# Altium footprint library R2Cloud.PcbLib: 10 footprints
Each footprint in its own frame and in the unit in brackets; x right, y up, seen from the top. Pads: shape width x height; smd on the part's side, far side on the other; paste and mask are expansions set on the pad; w line width, h text height; cw(c..) or ccw(c..) is an arc to the next point about the centre after c.
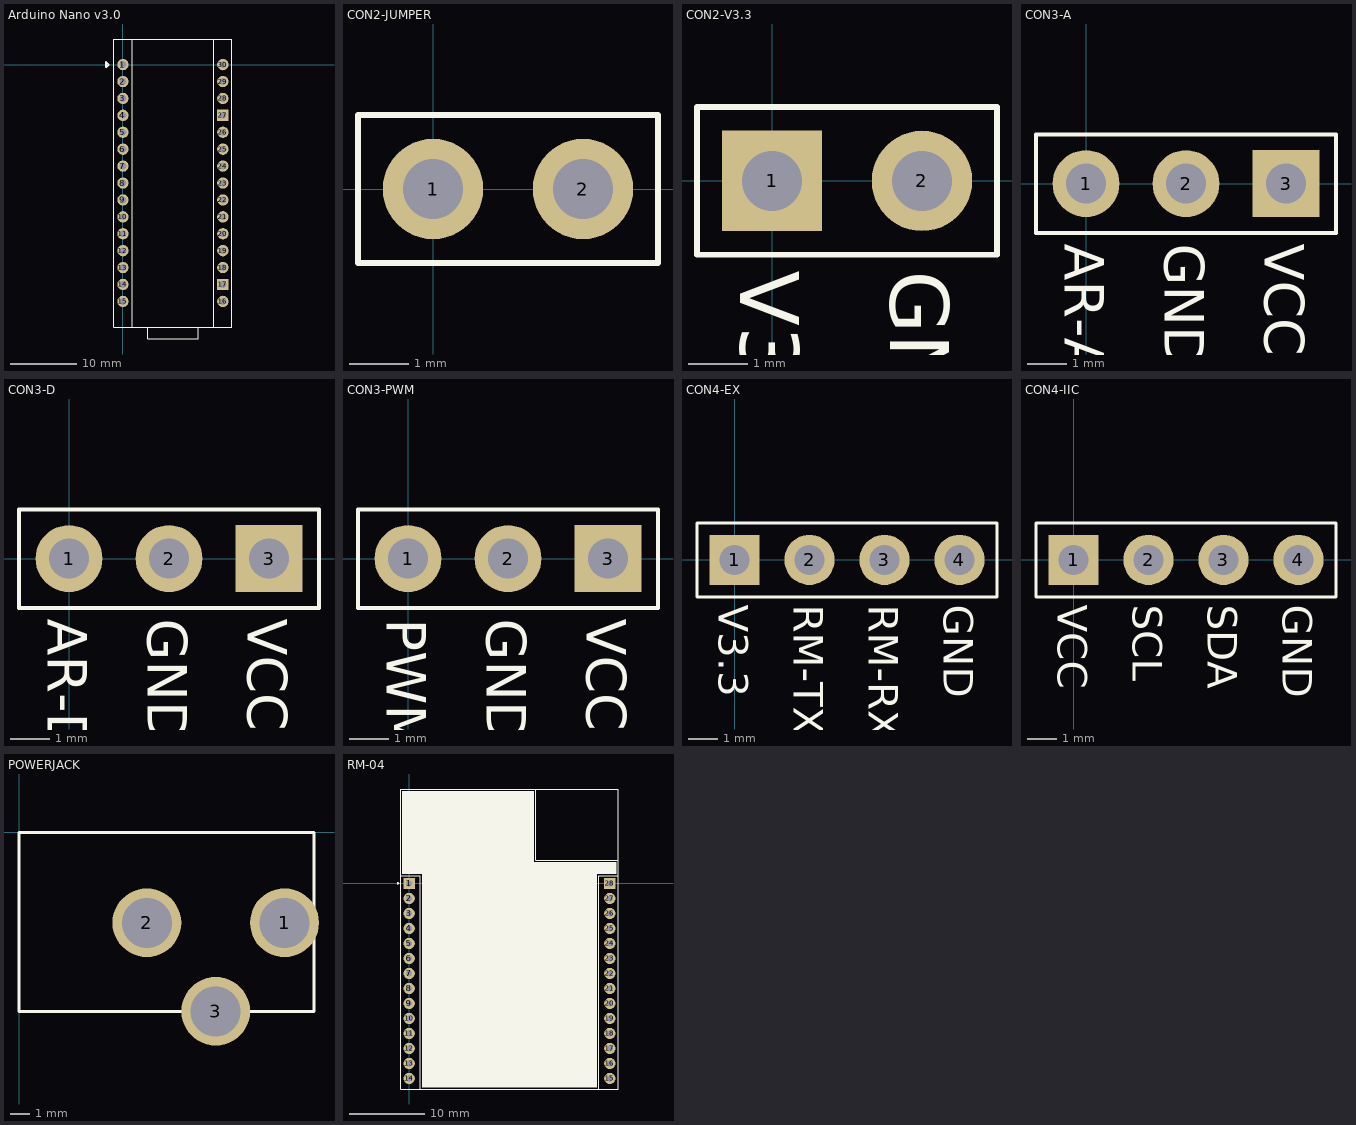
[diagram p0: the footprints below, top view; thin cyan lines are the x and y axes]

## Arduino Nano v3.0 [mm]
pads (30):
  round 1.7 hole 1.02: 1(0,0) 2(0,-2.54) 3(0,-5.08) 4(0,-7.62) 5(0,-10.16) 6(0,-12.7) 7(0,-15.24) 8(0,-17.78) 9(0,-20.32) 10(0,-22.86) 11(0,-25.4) 12(0,-27.94) 13(0,-30.48) 14(0,-33.02) 15(0,-35.56) 16(15,-35.56) 18(15,-30.48) 19(15,-27.94) 20(15,-25.4) 21(15,-22.86) 22(15,-20.32) 23(15,-17.78) 24(15,-15.24) 25(15,-12.7) 26(15,-10.16) 28(15,-5.08) 29(15,-2.54) 30(15,0)
  rect 1.7x1.7 hole 1.02: 17(15,-33.02) 27(15,-7.62)
Top Overlay:
  lines w0.1: 1.365,-39.405 1.365,3.845 ; 3.7,-39.405 3.7,-41.205 11.3,-41.205 11.3,-39.405 ; 13.635,-39.405 13.635,3.845 ; -1.365,-39.405 -1.365,3.845 6.865,3.845 16.365,3.845 16.365,-39.405 -1.365,-39.405
  lines w0.3: -2.54,-0.381 -2.54,0.381 -2.159,0 -2.54,-0.381

## CON2-JUMPER [mm]
pads (2):
  round 1.7 hole 1.02: 1(0,0) 2(2.54,0)
Top Overlay:
  lines w0.1: -1.27,-1.25 3.81,-1.25 3.81,1.25 -1.27,1.25 -1.27,-1.25

## CON2-V3.3 [mm]
pads (2):
  rect 1.7x1.7 hole 1.02: 1(0,0)
  round 1.7 hole 1.02: 2(2.54,0)
Top Overlay:
  lines w0.1: -1.27,-1.25 -1.27,1.25 3.81,1.25 3.81,-1.25 -1.27,-1.25
  text "GND" at 2,-1.524 h1
  text "V3.3" at -0.54,-1.524 h1

## CON3-A [mm]
pads (3):
  round 1.7 hole 1.02: 1(0,0) 2(2.54,0)
  rect 1.7x1.7 hole 1.02: 3(5.08,0)
Top Overlay:
  lines w0.1: -1.27,-1.25 -1.27,1.25 6.35,1.25 6.35,-1.25 -1.27,-1.25
  text "VCC" at 4.54,-1.524 h1
  text "GND" at 2,-1.524 h1
  text "AR-A" at -0.54,-1.524 h1

## CON3-D [mm]
pads (3):
  round 1.7 hole 1.02: 1(0,0) 2(2.54,0)
  rect 1.7x1.7 hole 1.02: 3(5.08,0)
Top Overlay:
  lines w0.1: -1.27,-1.25 6.35,-1.25 6.35,1.25 -1.27,1.25 -1.27,-1.25
  text "AR-D" at -0.54,-1.524 h1
  text "GND" at 2,-1.524 h1
  text "VCC" at 4.54,-1.524 h1

## CON3-PWM [mm]
pads (3):
  round 1.7 hole 1.02: 1(0,0) 2(2.54,0)
  rect 1.7x1.7 hole 1.02: 3(5.08,0)
Top Overlay:
  lines w0.1: -1.27,-1.25 6.35,-1.25 6.35,1.25 -1.27,1.25 -1.27,-1.25
  text "PWM" at -0.54,-1.524 h1
  text "GND" at 2,-1.524 h1
  text "VCC" at 4.54,-1.524 h1

## CON4-EX [mm]
pads (4):
  rect 1.7x1.7 hole 1.02: 1(0,0)
  round 1.7 hole 1.02: 2(2.54,0) 3(5.08,0) 4(7.62,0)
Top Overlay:
  lines w0.1: -1.27,-1.25 -1.27,1.25 8.89,1.25 8.89,-1.25 -1.27,-1.25
  text "RM-RX" at 4.54,-1.524 h1
  text "RM-TX" at 2,-1.524 h1
  text "GND" at 7.08,-1.524 h1
  text "V3.3" at -0.54,-1.524 h1

## CON4-IIC [mm]
pads (4):
  rect 1.7x1.7 hole 1.02: 1(0,0)
  round 1.7 hole 1.02: 2(2.54,0) 3(5.08,0) 4(7.62,0)
Top Overlay:
  lines w0.1: -1.27,-1.25 8.89,-1.25 8.89,1.25 -1.27,1.25 -1.27,-1.25
  text "VCC" at -0.54,-1.524 h1
  text "GND" at 7.08,-1.524 h1
  text "SCL" at 2,-1.524 h1
  text "SDA" at 4.54,-1.524 h1

## POWERJACK [mm]
pads (3):
  round 3.5 hole 2.54: 1(13.5,-4.6) 2(6.5,-4.6) 3(10,-9.1)
Top Overlay:
  lines w0.15: 0,-9.1 15,-9.1 15,0 0,0 0,-9.1

## RM-04 [mm]
pads (28):
  rect 1.5x1.5 hole 0.8: 1(0,0) 28(26.75,0)
  round 1.5 hole 0.8: 2(0,-2) 3(0,-4) 4(0,-6) 5(0,-8) 6(0,-10) 7(0,-12) 8(0,-14) 9(0,-16) 10(0,-18) 11(0,-20) 12(0,-22) 13(0,-24) 14(0,-26) 15(26.75,-26) 16(26.75,-24) 17(26.75,-22) 18(26.75,-20) 19(26.75,-18) 20(26.75,-16) 21(26.75,-14) 22(26.75,-12) 23(26.75,-10) 24(26.75,-8) 25(26.75,-6) 26(26.75,-4) 27(26.75,-2)
Top Overlay:
  rectangle: 24.638,1.27 27.675,2.89
  rectangle: -0.925,1.27 16.675,12.319
  rectangle: 1.685,-27.178 25.065,2.89
  lines w0.1: -1.109,1 1.485,1 1.485,-27.41 ; 16.875,12.59 16.875,3.09 27.875,3.09 ; 25.265,-27.41 25.265,1 27.859,1 ; -1.524,-0.127 -1.397,0 -1.524,0.127 -1.524,-0.127 ; -1.125,-27.41 27.875,-27.41 27.875,12.59 -1.125,12.59 -1.125,-27.41